# EAGLE library part 52610-3071 (library molex)
SOCKET FFC/FPC
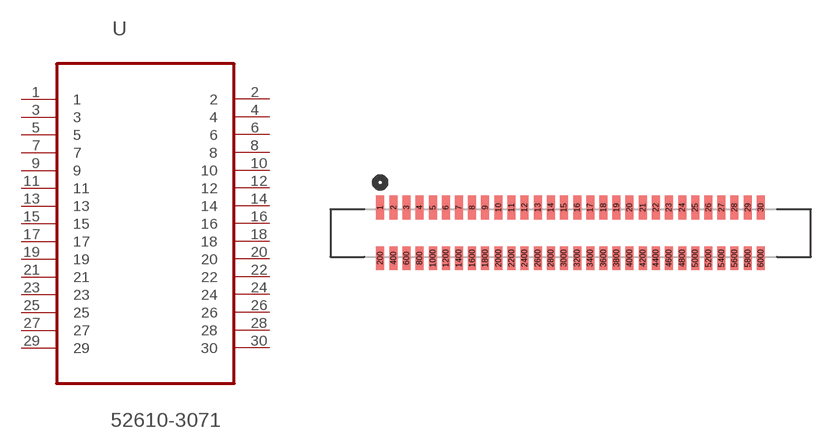
[diagram p25: symbol with the pads of MOLEX_52610-3071; footprint MOLEX_52610-3071]

Designator prefix U

## 52610-3071 (MPN: 52610-3071; OC_FARNELL: 9786279; OC_NEWARK: 01M4983; PACKAGE: SOCKET FFC/FPC, 30 way; SUPPLIER: Molex)  [MOLEX_52610-3071]
1  1  pas
2  2  pas
3  3  pas
4  4  pas
5  5  pas
6  6  pas
7  7  pas
8  8  pas
9  9  pas
10  10  pas
11  11  pas
12  12  pas
13  13  pas
14  14  pas
15  15  pas
16  16  pas
17  17  pas
18  18  pas
19  19  pas
20  20  pas
21  21  pas
22  22  pas
23  23  pas
24  24  pas
25  25  pas
26  26  pas
27  27  pas
28  28  pas
29  29  pas
30  30  pas

## Footprint MOLEX_52610-3071 (pad centres in mm)
smd 0.61 x 1.803: 1 -29.007,3.861; 2 -27.991,3.861; 3 -27,3.861; 4 -26.01,3.861; 5 -24.994,3.861; 6 -24.003,3.861; 7 -23.012,3.861; 8 -21.996,3.861; 9 -21.006,3.861; 10 -19.99,3.861; 11 -18.999,3.861; 12 -18.009,3.861; 13 -16.993,3.861; 14 -16.002,3.861; 15 -15.011,3.861; 16 -13.995,3.861; 17 -13.005,3.861; 18 -11.989,3.861; 19 -10.998,3.861; 20 -10.008,3.861; 21 -8.992,3.861; 22 -8.001,3.861; 23 -7.01,3.861; 24 -5.994,3.861; 25 -5.004,3.861; 26 -3.988,3.861; 27 -2.997,3.861; 28 -2.007,3.861; 29 -0.991,3.861; 30 0,3.861; 200 -29.007,0; 400 -27.991,0; 600 -27,0; 800 -26.01,0; 1000 -24.994,0; 1200 -24.003,0; 1400 -23.012,0; 1600 -21.996,0; 1800 -21.006,0; 2000 -19.99,0; 2200 -18.999,0; 2400 -18.009,0; 2600 -16.993,0; 2800 -16.002,0; 3000 -15.011,0; 3200 -13.995,0; 3400 -13.005,0; 3600 -11.989,0; 3800 -10.998,0; 4000 -10.008,0; 4200 -8.992,0; 4400 -8.001,0; 4600 -7.01,0; 4800 -5.994,0; 5000 -5.004,0; 5200 -3.988,0; 5400 -2.997,0; 5600 -2.007,0; 5800 -0.991,0; 6000 0,0